# EAGLE library part SPARKFUN-LEVEL-SHIFTER (library RocketControlBoard)
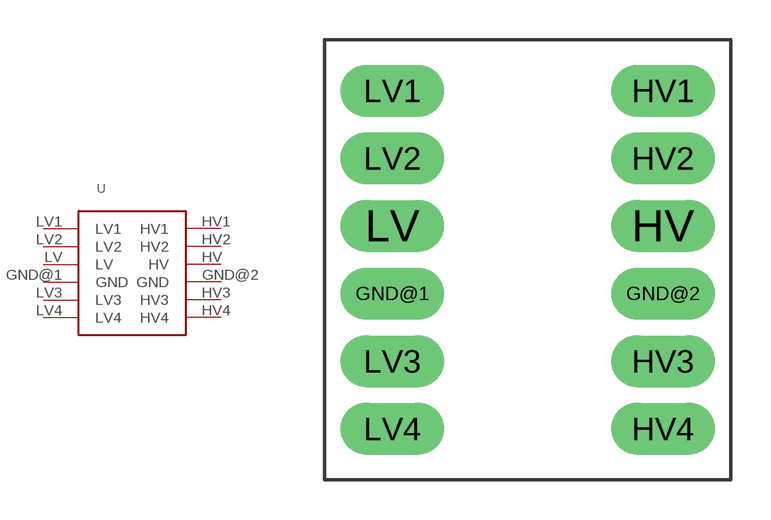
[diagram p15: symbol with the pads of SPARKFUN-LEVEL-SHIFTER; footprint SPARKFUN-LEVEL-SHIFTER]

Designator prefix -

## SPARKFUN-LEVEL-SHIFTER  [SPARKFUN-LEVEL-SHIFTER]
GND@1  GND
GND@2  GND
HV  HV
HV1  HV1
HV2  HV2
HV3  HV3
HV4  HV4
LV  LV
LV1  LV1
LV2  LV2
LV3  LV3
LV4  LV4

## Footprint SPARKFUN-LEVEL-SHIFTER (pad centres in mm)
drill 1.3 long: GND@1 0,-1.27; GND@2 10.16,-1.27; HV 10.16,1.27; HV1 10.16,6.35; HV2 10.16,3.81; HV3 10.16,-3.81; HV4 10.16,-6.35; LV 0,1.27; LV1 0,6.35; LV2 0,3.81; LV3 0,-3.81; LV4 0,-6.35